# EAGLE library part WL-T7DS_0.52INCH_COMMON-ANODE (library Wurth_7 Segments Display_WL-T7DS)
WL-T7DS 7 Segments Display THT Single Digit Characteristics Industrial standard size and schematic Low power consumption Grey surface Milky / Diffuesed segments Driving with DC current in forward direction only Suitable for high peak current upto 100 mA Applications Audio / measure equipment Instrument panels Digital read out display Control units <https://www.we-online.com/catalog/media/o447285v209%20WL_T7DS_Group.jpg> Details see: www.we-online.com/catalog/WL-T7DS <www.we-online.com/catalog/WL-T7DS/?utm_source=eagle_model&utm_medium=description_link&utm_campaign=eisos_eagle> Updated by Ella Wu, 2021-09-06 2022 (C) Wurth Elektronik
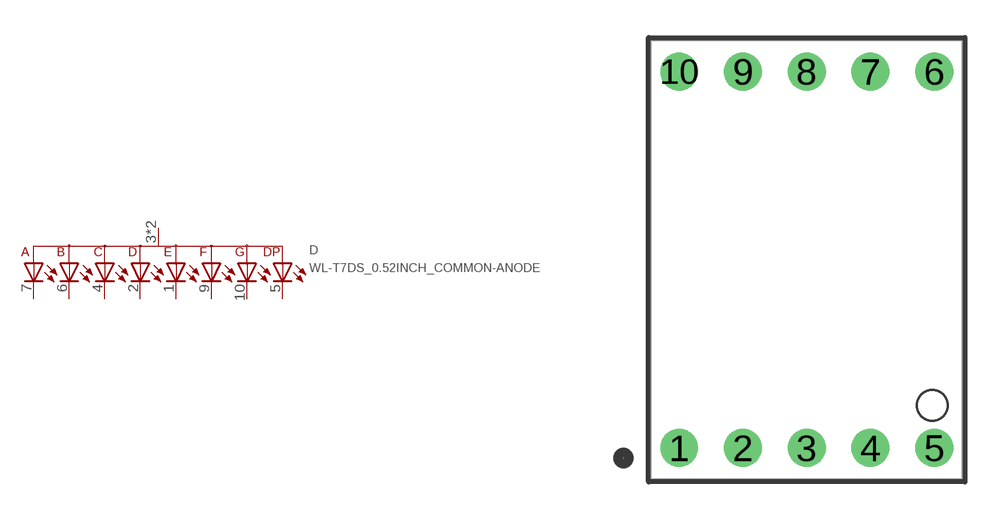
[diagram p0: symbol with the pads of WL-T7DS_0.52INCH; footprint WL-T7DS_0.52INCH]

Designator prefix D

## WL-T7DS_0.52INCH_COMMON-ANODE_157136B12801 (CIRCUITRY: Common Anode; DATASHEET-URL: https://www.we-online.com/redexpert/spec/157136B12801?ae; EMITTING-COLOR: Blue; HEIGHT: 7mm; IV-TYP: 32mcd; LENGTH: 17.5mm; PART-NUMBER: 157136B12801; VALUE: 157136B12801; VF-TYP: 3V; WIDTH: 12.4mm), WL-T7DS_0.52INCH_COMMON-ANODE_157136S12801 (CIRCUITRY: Common Anode; DATASHEET-URL: https://www.we-online.com/redexpert/spec/157136S12801?ae; EMITTING-COLOR: Super Red; HEIGHT: 7mm; IV-TYP: 38mcd; LENGTH: 17.5mm; PART-NUMBER: 157136S12801; VALUE: 157136S12801; VF-TYP: 2V; WIDTH: 12.4mm), WL-T7DS_0.52INCH_COMMON-ANODE_157136V12801 (CIRCUITRY: Common Anode; DATASHEET-URL: https://www.we-online.com/redexpert/spec/157136V12801?ae; EMITTING-COLOR: Bright Green; HEIGHT: 7mm; IV-TYP: 46mcd; LENGTH: 17.5mm; PART-NUMBER: 157136V12801; VALUE: 157136V12801; VF-TYP: 2.2V; WIDTH: 12.4mm)  [WL-T7DS_0.52INCH]
1  1  pas
2  2  pas
3  +  pas
4  4  pas
5  5  pas
6  6  pas
7  7  pas
8  +  pas
9  9  pas
10  10  pas

## Footprint WL-T7DS_0.52INCH (pad centres in mm)
WL-T7DS 7 Segments Display THT Single Digit Size: 0.52inch, THT, 8pins L X W X H=17.5mm X 12.4mm X 7mm
drill 1: 1 -5.08,-7.5; 2 -2.54,-7.5; 3 0,-7.5; 4 2.54,-7.5; 5 5.08,-7.5; 6 5.08,7.5; 7 2.54,7.5; 8 0,7.5; 9 -2.54,7.5; 10 -5.08,7.5